# EAGLE library part CONN_6X1 (library leaf)
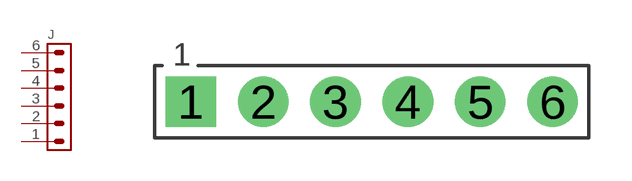
[diagram p12: symbol with the pads of CONN_6X1_2P54; footprint CONN_6X1_2P54]

Designator prefix J

## CONN_6X1  [CONN_6X1_2P54]
1  1
2  2
3  3
4  4
5  5
6  6

## Footprint CONN_6X1_2P54 (pad centres in mm)
drill 0.8 pad 1.778 square: 1 0,0
drill 0.8 pad 1.778: 2 2.54,0; 3 5.08,0; 4 7.62,0; 5 10.16,0; 6 12.7,0